# EAGLE library part MC100EPT26DTG (library ON Semiconductor_By_element14_Batch_1)
3.3V 1:2 Fanout Differential LVPECL/LVDS to LVTTL Translator
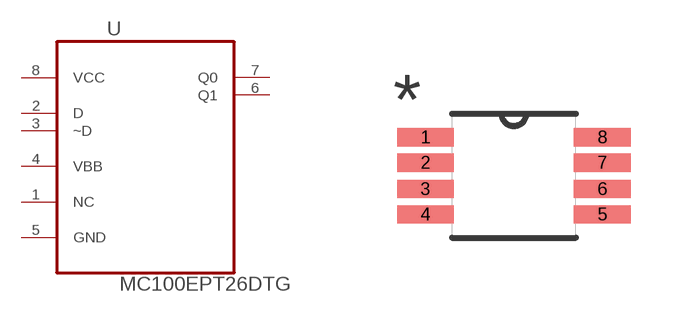
[diagram p138: symbol with the pads of SOP65P490X110-8N; footprint SOP65P490X110-8N]

Designator prefix U

## MC100EPT26DTG (MPN: MC100EPT26DTG; OC_FARNELL: 1209363; OC_NEWARK: 26K3838; PACKAGE: TSSOP-8; SUPPLIER: ON SEMICONDUCTOR)  [SOP65P490X110-8N]
1  NC  nc
2  D  in
3  ~D  in
4  VBB  pwr
5  GND  pas
6  Q1  out
7  Q0  out
8  VCC  pwr

## Footprint SOP65P490X110-8N (pad centres in mm)
smd 1.422 x 0.457: 1 -2.21,0.965; 2 -2.21,0.33; 3 -2.21,-0.33; 4 -2.21,-0.965; 5 2.21,-0.965; 6 2.21,-0.33; 7 2.21,0.33; 8 2.21,0.965